# Altium footprint library HDRV8W69P0X254_1X8_2032X251X1641P.PcbLib: 1 footprints
Each footprint in its own frame and in the unit in brackets; x right, y up, seen from the top. Pads: shape width x height; smd on the part's side, far side on the other; paste and mask are expansions set on the pad; w line width, h text height; cw(c..) or ccw(c..) is an arc to the next point about the centre after c.
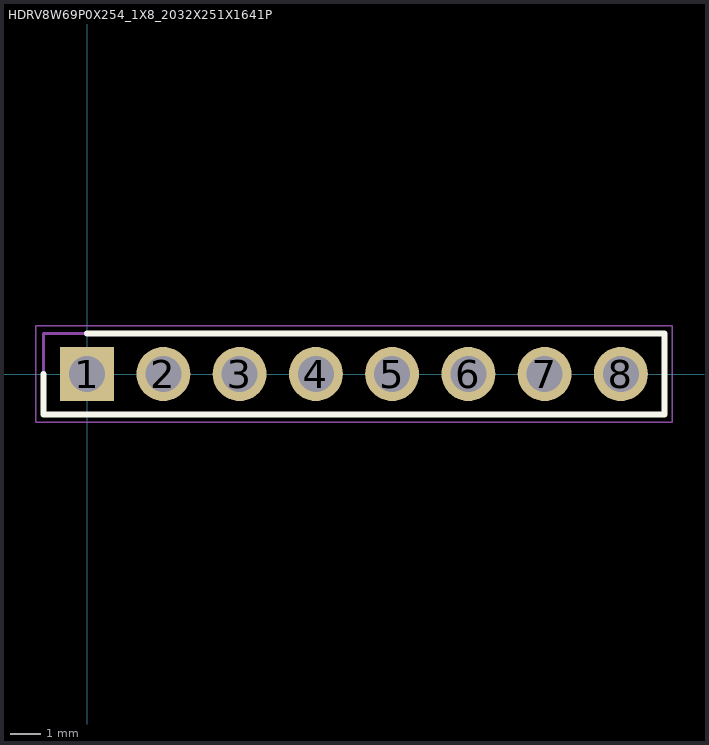
[diagram p0: the footprint, top view; thin cyan lines are the x and y axes]

## HDRV8W69P0X254_1X8_2032X251X1641P [mm]
pads (8):
  rect 1.8x1.8 / inner round 1.8 / far side rect 1.8x1.8 hole 1.2: 1(0,0)
  round 1.8 hole 1.2: 2(2.54,0) 3(5.08,0) 4(7.62,0) 5(10.16,0) 6(12.7,0) 7(15.24,0) 8(17.78,0)
Top Overlay:
  lines w0.2: -1.46,0 -1.46,-1.355 19.24,-1.355 19.24,1.355 0,1.355
Mechanical 15:
  lines w0.1: -1.46,-1.355 -1.46,1.355 19.24,1.355 19.24,-1.355 -1.46,-1.355
Mechanical 20:
  lines w0.05: -1.71,-1.605 -1.71,1.605 19.49,1.605 19.49,-1.605 -1.71,-1.605